# Altium integrated library Linear Technology PMIC-Switching Reg LT1074-LT8705.IntLib: 2252 symbols (part 11 of 124)
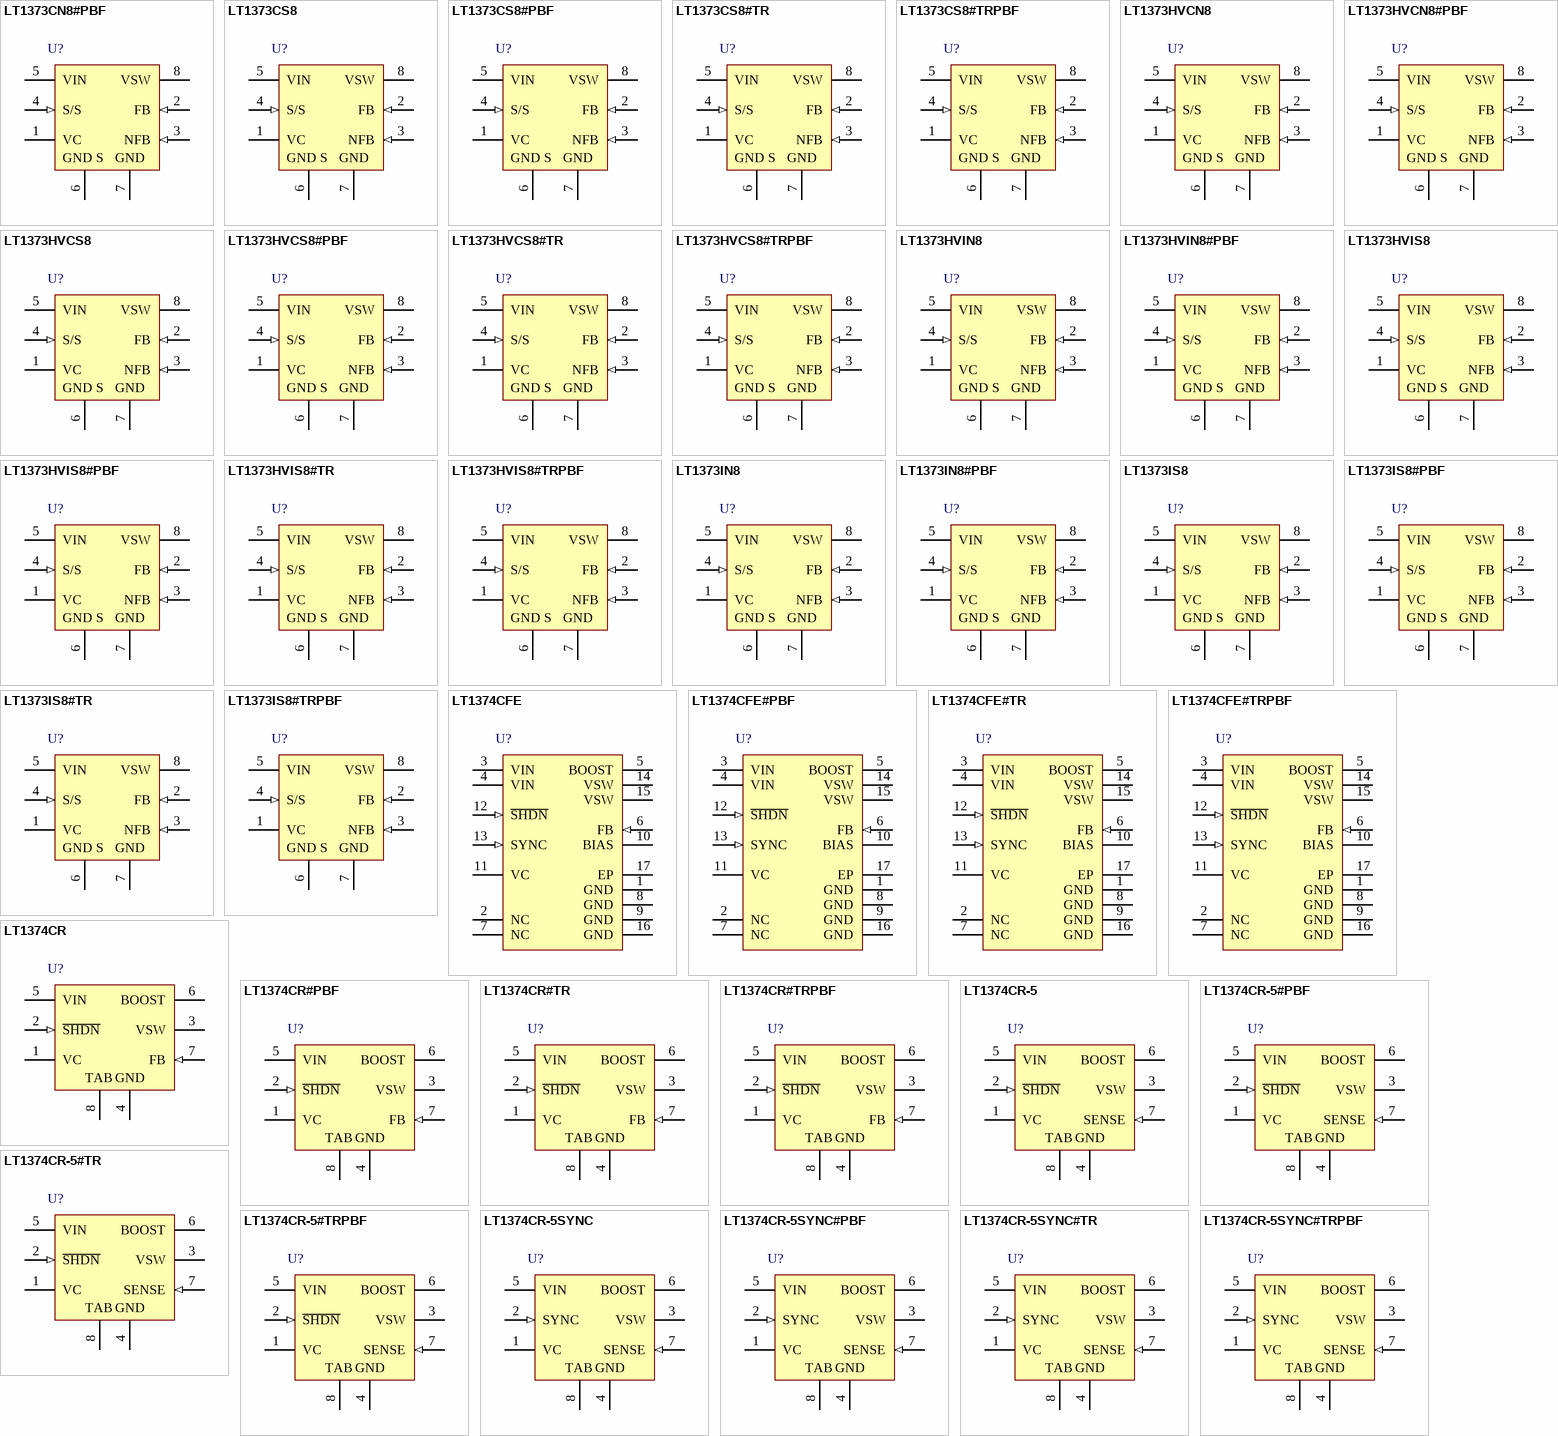
[diagram p81: symbols LT1373CN8#PBF to LT1374CR-5SYNC#TRPBF]

## LT1373CS8#TRPBF
designator U?
250 kHz Low Supply Current High Efficiency 1.5 A Switching Regulator, 8-pin SOIC (S8-8), 0 to 125 degC, Pb-Free, Tape and Reel; Manufacturer: Linear Technology; PartNumber: LT1373CS8#TRPBF; Number of Outputs: 1; PackageReference: S8-8; PackageDescription: 8-Pin Plastic Small Outline (Narrow .150 Inch), Body 4.9 x 3.9 mm, Pitch 1.27 mm; Supplier 1: Digi-Key; Supplier Part Number 1: LT1373CS8#TRPBF-ND; RoHS: TRUE
footprint LT-S8-8_N (SOIC, 8-Leads, Body 5x4mm, Pitch 1.27mm, IPC Medium Density)
footprint LT-S8-8_L (SOIC, 8-Leads, Body 5x4mm, Pitch 1.27mm, IPC High Density)
footprint LT-S8-8_M (SOIC, 8-Leads, Body 5x4mm, Pitch 1.27mm, IPC Low Density)
pins: 1 VC "The compensation pin is used for frequency compensation, current limiting and soft start. It is the output of the error amplifier and the input of the current comparator. Loop frequency compensation can be performed with an (See Datasheet)", 2 FB (in) "The feedback pin is used for positive output voltage sensing and oscillator frequency shifting. It is the inverting input to the error amplifier. The noninverting input of this amplifier is internally tied to a 1.245V (See Datasheet)", 3 NFB (in), 4 S/S (in) "Shutdown and Synchronization Pin. The S/S pin is logic level compatible. Shutdown is active low and the shutdown threshold is typically 1.3V. For normal operation, pull the S/S pin high, tie it to VIN or leave it floating. (See Datasheet)", 5 VIN (power) "Bypass input supply pin with 10uF or more. The part goes into undervoltage lockout when VIN drops below 2.5V. Undervoltage lockout stops switching and pulls the VC pin low.", 6 GND S (power) "The ground sense pin is a ¡°clean¡± ground. The internal reference, error amplifier and negative feedback amplifier are referred to the ground sense pin. Connect it to ground. Keep the ground path connection to the out(See Datasheet)", 7 GND (power) "The ground pin is the emitter connection of the power switch and has large currents flowing through it. It should be connected directly to a good quality ground plane.", 8 VSW (power) "The switch pin is the collector of the power switch and has large currents flowing through it. Keep the traces to the switching components as short as possible to minimize radiation and voltage spikes."

## LT1373HVCN8
designator U?
250 kHz Low Supply Current High Efficiency 1.5 A Switching Regulator, 8-pin DIP (N8-8), 0 to 125 degC; Manufacturer: Linear Technology; PartNumber: LT1373HVCN8; Number of Outputs: 1; PackageReference: N8-8; PackageDescription: 8-Pin PDIP, Body 10.16 x 6.48 mm, Pitch 2.54 mm; Supplier 1: Digi-Key; Supplier Part Number 1: LT1373HVCN8-ND; RoHS: FALSE
footprint LT-N8-8 (DIP, 8-Leads, Body 10.15x6.85mm, Pitch 2.54mm)
pins: 1 VC "The compensation pin is used for frequency compensation, current limiting and soft start. It is the output of the error amplifier and the input of the current comparator. Loop frequency compensation can be performed with an (See Datasheet)", 2 FB (in) "The feedback pin is used for positive output voltage sensing and oscillator frequency shifting. It is the inverting input to the error amplifier. The noninverting input of this amplifier is internally tied to a 1.245V (See Datasheet)", 3 NFB (in), 4 S/S (in) "Shutdown and Synchronization Pin. The S/S pin is logic level compatible. Shutdown is active low and the shutdown threshold is typically 1.3V. For normal operation, pull the S/S pin high, tie it to VIN or leave it floating. (See Datasheet)", 5 VIN (power) "Bypass input supply pin with 10uF or more. The part goes into undervoltage lockout when VIN drops below 2.5V. Undervoltage lockout stops switching and pulls the VC pin low.", 6 GND S (power) "The ground sense pin is a ¡°clean¡± ground. The internal reference, error amplifier and negative feedback amplifier are referred to the ground sense pin. Connect it to ground. Keep the ground path connection to the out(See Datasheet)", 7 GND (power) "The ground pin is the emitter connection of the power switch and has large currents flowing through it. It should be connected directly to a good quality ground plane.", 8 VSW (power) "The switch pin is the collector of the power switch and has large currents flowing through it. Keep the traces to the switching components as short as possible to minimize radiation and voltage spikes."

## LT1373HVCN8#PBF
designator U?
250 kHz Low Supply Current High Efficiency 1.5 A Switching Regulator, 8-pin DIP (N8-8), 0 to 125 degC, Pb-Free; Manufacturer: Linear Technology; PartNumber: LT1373HVCN8#PBF; Number of Outputs: 1; PackageReference: N8-8; PackageDescription: 8-Pin PDIP, Body 10.16 x 6.48 mm, Pitch 2.54 mm; Supplier 1: Digi-Key; Supplier Part Number 1: LT1373HVCN8#PBF-ND; RoHS: TRUE
footprint LT-N8-8 (DIP, 8-Leads, Body 10.15x6.85mm, Pitch 2.54mm)
pins: 1 VC "The compensation pin is used for frequency compensation, current limiting and soft start. It is the output of the error amplifier and the input of the current comparator. Loop frequency compensation can be performed with an (See Datasheet)", 2 FB (in) "The feedback pin is used for positive output voltage sensing and oscillator frequency shifting. It is the inverting input to the error amplifier. The noninverting input of this amplifier is internally tied to a 1.245V (See Datasheet)", 3 NFB (in), 4 S/S (in) "Shutdown and Synchronization Pin. The S/S pin is logic level compatible. Shutdown is active low and the shutdown threshold is typically 1.3V. For normal operation, pull the S/S pin high, tie it to VIN or leave it floating. (See Datasheet)", 5 VIN (power) "Bypass input supply pin with 10uF or more. The part goes into undervoltage lockout when VIN drops below 2.5V. Undervoltage lockout stops switching and pulls the VC pin low.", 6 GND S (power) "The ground sense pin is a ¡°clean¡± ground. The internal reference, error amplifier and negative feedback amplifier are referred to the ground sense pin. Connect it to ground. Keep the ground path connection to the out(See Datasheet)", 7 GND (power) "The ground pin is the emitter connection of the power switch and has large currents flowing through it. It should be connected directly to a good quality ground plane.", 8 VSW (power) "The switch pin is the collector of the power switch and has large currents flowing through it. Keep the traces to the switching components as short as possible to minimize radiation and voltage spikes."

## LT1373HVCS8
designator U?
250 kHz Low Supply Current High Efficiency 1.5 A Switching Regulator, 8-pin SOIC (S8-8), 0 to 125 degC; Manufacturer: Linear Technology; PartNumber: LT1373HVCS8; Number of Outputs: 1; PackageReference: S8-8; PackageDescription: 8-Pin Plastic Small Outline (Narrow .150 Inch), Body 4.9 x 3.9 mm, Pitch 1.27 mm; Supplier 1: Digi-Key; Supplier Part Number 1: LT1373HVCS8-ND; RoHS: FALSE
footprint LT-S8-8_N (SOIC, 8-Leads, Body 5x4mm, Pitch 1.27mm, IPC Medium Density)
footprint LT-S8-8_L (SOIC, 8-Leads, Body 5x4mm, Pitch 1.27mm, IPC High Density)
footprint LT-S8-8_M (SOIC, 8-Leads, Body 5x4mm, Pitch 1.27mm, IPC Low Density)
pins: 1 VC "The compensation pin is used for frequency compensation, current limiting and soft start. It is the output of the error amplifier and the input of the current comparator. Loop frequency compensation can be performed with an (See Datasheet)", 2 FB (in) "The feedback pin is used for positive output voltage sensing and oscillator frequency shifting. It is the inverting input to the error amplifier. The noninverting input of this amplifier is internally tied to a 1.245V (See Datasheet)", 3 NFB (in), 4 S/S (in) "Shutdown and Synchronization Pin. The S/S pin is logic level compatible. Shutdown is active low and the shutdown threshold is typically 1.3V. For normal operation, pull the S/S pin high, tie it to VIN or leave it floating. (See Datasheet)", 5 VIN (power) "Bypass input supply pin with 10uF or more. The part goes into undervoltage lockout when VIN drops below 2.5V. Undervoltage lockout stops switching and pulls the VC pin low.", 6 GND S (power) "The ground sense pin is a ¡°clean¡± ground. The internal reference, error amplifier and negative feedback amplifier are referred to the ground sense pin. Connect it to ground. Keep the ground path connection to the out(See Datasheet)", 7 GND (power) "The ground pin is the emitter connection of the power switch and has large currents flowing through it. It should be connected directly to a good quality ground plane.", 8 VSW (power) "The switch pin is the collector of the power switch and has large currents flowing through it. Keep the traces to the switching components as short as possible to minimize radiation and voltage spikes."

## LT1373HVCS8#PBF
designator U?
250 kHz Low Supply Current High Efficiency 1.5 A Switching Regulator, 8-pin SOIC (S8-8), 0 to 125 degC, Pb-Free; Manufacturer: Linear Technology; PartNumber: LT1373HVCS8#PBF; Number of Outputs: 1; PackageReference: S8-8; PackageDescription: 8-Pin Plastic Small Outline (Narrow .150 Inch), Body 4.9 x 3.9 mm, Pitch 1.27 mm; Supplier 1: Digi-Key; Supplier Part Number 1: LT1373HVCS8#PBF-ND; RoHS: TRUE
footprint LT-S8-8_N (SOIC, 8-Leads, Body 5x4mm, Pitch 1.27mm, IPC Medium Density)
footprint LT-S8-8_L (SOIC, 8-Leads, Body 5x4mm, Pitch 1.27mm, IPC High Density)
footprint LT-S8-8_M (SOIC, 8-Leads, Body 5x4mm, Pitch 1.27mm, IPC Low Density)
pins: 1 VC "The compensation pin is used for frequency compensation, current limiting and soft start. It is the output of the error amplifier and the input of the current comparator. Loop frequency compensation can be performed with an (See Datasheet)", 2 FB (in) "The feedback pin is used for positive output voltage sensing and oscillator frequency shifting. It is the inverting input to the error amplifier. The noninverting input of this amplifier is internally tied to a 1.245V (See Datasheet)", 3 NFB (in), 4 S/S (in) "Shutdown and Synchronization Pin. The S/S pin is logic level compatible. Shutdown is active low and the shutdown threshold is typically 1.3V. For normal operation, pull the S/S pin high, tie it to VIN or leave it floating. (See Datasheet)", 5 VIN (power) "Bypass input supply pin with 10uF or more. The part goes into undervoltage lockout when VIN drops below 2.5V. Undervoltage lockout stops switching and pulls the VC pin low.", 6 GND S (power) "The ground sense pin is a ¡°clean¡± ground. The internal reference, error amplifier and negative feedback amplifier are referred to the ground sense pin. Connect it to ground. Keep the ground path connection to the out(See Datasheet)", 7 GND (power) "The ground pin is the emitter connection of the power switch and has large currents flowing through it. It should be connected directly to a good quality ground plane.", 8 VSW (power) "The switch pin is the collector of the power switch and has large currents flowing through it. Keep the traces to the switching components as short as possible to minimize radiation and voltage spikes."

## LT1373HVCS8#TR
designator U?
250 kHz Low Supply Current High Efficiency 1.5 A Switching Regulator, 8-pin SOIC (S8-8), 0 to 125 degC, Tape and Reel; Manufacturer: Linear Technology; PartNumber: LT1373HVCS8#TR; Number of Outputs: 1; PackageReference: S8-8; PackageDescription: 8-Pin Plastic Small Outline (Narrow .150 Inch), Body 4.9 x 3.9 mm, Pitch 1.27 mm; Supplier 1: Digi-Key; Supplier Part Number 1: LT1373HVCS8#TR-ND; RoHS: FALSE
footprint LT-S8-8_N (SOIC, 8-Leads, Body 5x4mm, Pitch 1.27mm, IPC Medium Density)
footprint LT-S8-8_L (SOIC, 8-Leads, Body 5x4mm, Pitch 1.27mm, IPC High Density)
footprint LT-S8-8_M (SOIC, 8-Leads, Body 5x4mm, Pitch 1.27mm, IPC Low Density)
pins: 1 VC "The compensation pin is used for frequency compensation, current limiting and soft start. It is the output of the error amplifier and the input of the current comparator. Loop frequency compensation can be performed with an (See Datasheet)", 2 FB (in) "The feedback pin is used for positive output voltage sensing and oscillator frequency shifting. It is the inverting input to the error amplifier. The noninverting input of this amplifier is internally tied to a 1.245V (See Datasheet)", 3 NFB (in), 4 S/S (in) "Shutdown and Synchronization Pin. The S/S pin is logic level compatible. Shutdown is active low and the shutdown threshold is typically 1.3V. For normal operation, pull the S/S pin high, tie it to VIN or leave it floating. (See Datasheet)", 5 VIN (power) "Bypass input supply pin with 10uF or more. The part goes into undervoltage lockout when VIN drops below 2.5V. Undervoltage lockout stops switching and pulls the VC pin low.", 6 GND S (power) "The ground sense pin is a ¡°clean¡± ground. The internal reference, error amplifier and negative feedback amplifier are referred to the ground sense pin. Connect it to ground. Keep the ground path connection to the out(See Datasheet)", 7 GND (power) "The ground pin is the emitter connection of the power switch and has large currents flowing through it. It should be connected directly to a good quality ground plane.", 8 VSW (power) "The switch pin is the collector of the power switch and has large currents flowing through it. Keep the traces to the switching components as short as possible to minimize radiation and voltage spikes."

## LT1373HVCS8#TRPBF
designator U?
250 kHz Low Supply Current High Efficiency 1.5 A Switching Regulator, 8-pin SOIC (S8-8), 0 to 125 degC, Pb-Free, Tape and Reel; Manufacturer: Linear Technology; PartNumber: LT1373HVCS8#TRPBF; Number of Outputs: 1; PackageReference: S8-8; PackageDescription: 8-Pin Plastic Small Outline (Narrow .150 Inch), Body 4.9 x 3.9 mm, Pitch 1.27 mm; Supplier 1: Digi-Key; Supplier Part Number 1: LT1373HVCS8#TRPBF-ND; RoHS: TRUE
footprint LT-S8-8_N (SOIC, 8-Leads, Body 5x4mm, Pitch 1.27mm, IPC Medium Density)
footprint LT-S8-8_L (SOIC, 8-Leads, Body 5x4mm, Pitch 1.27mm, IPC High Density)
footprint LT-S8-8_M (SOIC, 8-Leads, Body 5x4mm, Pitch 1.27mm, IPC Low Density)
pins: 1 VC "The compensation pin is used for frequency compensation, current limiting and soft start. It is the output of the error amplifier and the input of the current comparator. Loop frequency compensation can be performed with an (See Datasheet)", 2 FB (in) "The feedback pin is used for positive output voltage sensing and oscillator frequency shifting. It is the inverting input to the error amplifier. The noninverting input of this amplifier is internally tied to a 1.245V (See Datasheet)", 3 NFB (in), 4 S/S (in) "Shutdown and Synchronization Pin. The S/S pin is logic level compatible. Shutdown is active low and the shutdown threshold is typically 1.3V. For normal operation, pull the S/S pin high, tie it to VIN or leave it floating. (See Datasheet)", 5 VIN (power) "Bypass input supply pin with 10uF or more. The part goes into undervoltage lockout when VIN drops below 2.5V. Undervoltage lockout stops switching and pulls the VC pin low.", 6 GND S (power) "The ground sense pin is a ¡°clean¡± ground. The internal reference, error amplifier and negative feedback amplifier are referred to the ground sense pin. Connect it to ground. Keep the ground path connection to the out(See Datasheet)", 7 GND (power) "The ground pin is the emitter connection of the power switch and has large currents flowing through it. It should be connected directly to a good quality ground plane.", 8 VSW (power) "The switch pin is the collector of the power switch and has large currents flowing through it. Keep the traces to the switching components as short as possible to minimize radiation and voltage spikes."

## LT1373HVIN8
designator U?
250 kHz Low Supply Current High Efficiency 1.5 A Switching Regulator, 8-pin DIP (N8-8), -40 to 125 degC; Manufacturer: Linear Technology; PartNumber: LT1373HVIN8; Number of Outputs: 1; PackageReference: N8-8; PackageDescription: 8-Pin PDIP, Body 10.16 x 6.48 mm, Pitch 2.54 mm; Supplier 1: Digi-Key; Supplier Part Number 1: LT1373HVIN8-ND; RoHS: FALSE
footprint LT-N8-8 (DIP, 8-Leads, Body 10.15x6.85mm, Pitch 2.54mm)
pins: 1 VC "The compensation pin is used for frequency compensation, current limiting and soft start. It is the output of the error amplifier and the input of the current comparator. Loop frequency compensation can be performed with an (See Datasheet)", 2 FB (in) "The feedback pin is used for positive output voltage sensing and oscillator frequency shifting. It is the inverting input to the error amplifier. The noninverting input of this amplifier is internally tied to a 1.245V (See Datasheet)", 3 NFB (in), 4 S/S (in) "Shutdown and Synchronization Pin. The S/S pin is logic level compatible. Shutdown is active low and the shutdown threshold is typically 1.3V. For normal operation, pull the S/S pin high, tie it to VIN or leave it floating. (See Datasheet)", 5 VIN (power) "Bypass input supply pin with 10uF or more. The part goes into undervoltage lockout when VIN drops below 2.5V. Undervoltage lockout stops switching and pulls the VC pin low.", 6 GND S (power) "The ground sense pin is a ¡°clean¡± ground. The internal reference, error amplifier and negative feedback amplifier are referred to the ground sense pin. Connect it to ground. Keep the ground path connection to the out(See Datasheet)", 7 GND (power) "The ground pin is the emitter connection of the power switch and has large currents flowing through it. It should be connected directly to a good quality ground plane.", 8 VSW (power) "The switch pin is the collector of the power switch and has large currents flowing through it. Keep the traces to the switching components as short as possible to minimize radiation and voltage spikes."

## LT1373HVIN8#PBF
designator U?
250 kHz Low Supply Current High Efficiency 1.5 A Switching Regulator, 8-pin DIP (N8-8), -40 to 125 degC, Pb-Free; Manufacturer: Linear Technology; PartNumber: LT1373HVIN8#PBF; Number of Outputs: 1; PackageReference: N8-8; PackageDescription: 8-Pin PDIP, Body 10.16 x 6.48 mm, Pitch 2.54 mm; Supplier 1: Digi-Key; Supplier Part Number 1: LT1373HVIN8#PBF-ND; RoHS: TRUE
footprint LT-N8-8 (DIP, 8-Leads, Body 10.15x6.85mm, Pitch 2.54mm)
pins: 1 VC "The compensation pin is used for frequency compensation, current limiting and soft start. It is the output of the error amplifier and the input of the current comparator. Loop frequency compensation can be performed with an (See Datasheet)", 2 FB (in) "The feedback pin is used for positive output voltage sensing and oscillator frequency shifting. It is the inverting input to the error amplifier. The noninverting input of this amplifier is internally tied to a 1.245V (See Datasheet)", 3 NFB (in), 4 S/S (in) "Shutdown and Synchronization Pin. The S/S pin is logic level compatible. Shutdown is active low and the shutdown threshold is typically 1.3V. For normal operation, pull the S/S pin high, tie it to VIN or leave it floating. (See Datasheet)", 5 VIN (power) "Bypass input supply pin with 10uF or more. The part goes into undervoltage lockout when VIN drops below 2.5V. Undervoltage lockout stops switching and pulls the VC pin low.", 6 GND S (power) "The ground sense pin is a ¡°clean¡± ground. The internal reference, error amplifier and negative feedback amplifier are referred to the ground sense pin. Connect it to ground. Keep the ground path connection to the out(See Datasheet)", 7 GND (power) "The ground pin is the emitter connection of the power switch and has large currents flowing through it. It should be connected directly to a good quality ground plane.", 8 VSW (power) "The switch pin is the collector of the power switch and has large currents flowing through it. Keep the traces to the switching components as short as possible to minimize radiation and voltage spikes."

## LT1373HVIS8
designator U?
250 kHz Low Supply Current High Efficiency 1.5 A Switching Regulator, 8-pin SOIC (S8-8), -40 to 125 degC; Manufacturer: Linear Technology; PartNumber: LT1373HVIS8; Number of Outputs: 1; PackageReference: S8-8; PackageDescription: 8-Pin Plastic Small Outline (Narrow .150 Inch), Body 4.9 x 3.9 mm, Pitch 1.27 mm; Supplier 1: Digi-Key; Supplier Part Number 1: LT1373HVIS8-ND; RoHS: FALSE
footprint LT-S8-8_N (SOIC, 8-Leads, Body 5x4mm, Pitch 1.27mm, IPC Medium Density)
footprint LT-S8-8_L (SOIC, 8-Leads, Body 5x4mm, Pitch 1.27mm, IPC High Density)
footprint LT-S8-8_M (SOIC, 8-Leads, Body 5x4mm, Pitch 1.27mm, IPC Low Density)
pins: 1 VC "The compensation pin is used for frequency compensation, current limiting and soft start. It is the output of the error amplifier and the input of the current comparator. Loop frequency compensation can be performed with an (See Datasheet)", 2 FB (in) "The feedback pin is used for positive output voltage sensing and oscillator frequency shifting. It is the inverting input to the error amplifier. The noninverting input of this amplifier is internally tied to a 1.245V (See Datasheet)", 3 NFB (in), 4 S/S (in) "Shutdown and Synchronization Pin. The S/S pin is logic level compatible. Shutdown is active low and the shutdown threshold is typically 1.3V. For normal operation, pull the S/S pin high, tie it to VIN or leave it floating. (See Datasheet)", 5 VIN (power) "Bypass input supply pin with 10uF or more. The part goes into undervoltage lockout when VIN drops below 2.5V. Undervoltage lockout stops switching and pulls the VC pin low.", 6 GND S (power) "The ground sense pin is a ¡°clean¡± ground. The internal reference, error amplifier and negative feedback amplifier are referred to the ground sense pin. Connect it to ground. Keep the ground path connection to the out(See Datasheet)", 7 GND (power) "The ground pin is the emitter connection of the power switch and has large currents flowing through it. It should be connected directly to a good quality ground plane.", 8 VSW (power) "The switch pin is the collector of the power switch and has large currents flowing through it. Keep the traces to the switching components as short as possible to minimize radiation and voltage spikes."

## LT1373HVIS8#PBF
designator U?
250 kHz Low Supply Current High Efficiency 1.5 A Switching Regulator, 8-pin SOIC (S8-8), -40 to 125 degC, Pb-Free; Manufacturer: Linear Technology; PartNumber: LT1373HVIS8#PBF; Number of Outputs: 1; PackageReference: S8-8; PackageDescription: 8-Pin Plastic Small Outline (Narrow .150 Inch), Body 4.9 x 3.9 mm, Pitch 1.27 mm; Supplier 1: Digi-Key; Supplier Part Number 1: LT1373HVIS8#PBF-ND; RoHS: TRUE
footprint LT-S8-8_N (SOIC, 8-Leads, Body 5x4mm, Pitch 1.27mm, IPC Medium Density)
footprint LT-S8-8_L (SOIC, 8-Leads, Body 5x4mm, Pitch 1.27mm, IPC High Density)
footprint LT-S8-8_M (SOIC, 8-Leads, Body 5x4mm, Pitch 1.27mm, IPC Low Density)
pins: 1 VC "The compensation pin is used for frequency compensation, current limiting and soft start. It is the output of the error amplifier and the input of the current comparator. Loop frequency compensation can be performed with an (See Datasheet)", 2 FB (in) "The feedback pin is used for positive output voltage sensing and oscillator frequency shifting. It is the inverting input to the error amplifier. The noninverting input of this amplifier is internally tied to a 1.245V (See Datasheet)", 3 NFB (in), 4 S/S (in) "Shutdown and Synchronization Pin. The S/S pin is logic level compatible. Shutdown is active low and the shutdown threshold is typically 1.3V. For normal operation, pull the S/S pin high, tie it to VIN or leave it floating. (See Datasheet)", 5 VIN (power) "Bypass input supply pin with 10uF or more. The part goes into undervoltage lockout when VIN drops below 2.5V. Undervoltage lockout stops switching and pulls the VC pin low.", 6 GND S (power) "The ground sense pin is a ¡°clean¡± ground. The internal reference, error amplifier and negative feedback amplifier are referred to the ground sense pin. Connect it to ground. Keep the ground path connection to the out(See Datasheet)", 7 GND (power) "The ground pin is the emitter connection of the power switch and has large currents flowing through it. It should be connected directly to a good quality ground plane.", 8 VSW (power) "The switch pin is the collector of the power switch and has large currents flowing through it. Keep the traces to the switching components as short as possible to minimize radiation and voltage spikes."

## LT1373HVIS8#TR
designator U?
250 kHz Low Supply Current High Efficiency 1.5 A Switching Regulator, 8-pin SOIC (S8-8), -40 to 125 degC, Tape and Reel; Manufacturer: Linear Technology; PartNumber: LT1373HVIS8#TR; Number of Outputs: 1; PackageReference: S8-8; PackageDescription: 8-Pin Plastic Small Outline (Narrow .150 Inch), Body 4.9 x 3.9 mm, Pitch 1.27 mm; Supplier 1: Digi-Key; Supplier Part Number 1: LT1373HVIS8#TR-ND; RoHS: FALSE
footprint LT-S8-8_N (SOIC, 8-Leads, Body 5x4mm, Pitch 1.27mm, IPC Medium Density)
footprint LT-S8-8_L (SOIC, 8-Leads, Body 5x4mm, Pitch 1.27mm, IPC High Density)
footprint LT-S8-8_M (SOIC, 8-Leads, Body 5x4mm, Pitch 1.27mm, IPC Low Density)
pins: 1 VC "The compensation pin is used for frequency compensation, current limiting and soft start. It is the output of the error amplifier and the input of the current comparator. Loop frequency compensation can be performed with an (See Datasheet)", 2 FB (in) "The feedback pin is used for positive output voltage sensing and oscillator frequency shifting. It is the inverting input to the error amplifier. The noninverting input of this amplifier is internally tied to a 1.245V (See Datasheet)", 3 NFB (in), 4 S/S (in) "Shutdown and Synchronization Pin. The S/S pin is logic level compatible. Shutdown is active low and the shutdown threshold is typically 1.3V. For normal operation, pull the S/S pin high, tie it to VIN or leave it floating. (See Datasheet)", 5 VIN (power) "Bypass input supply pin with 10uF or more. The part goes into undervoltage lockout when VIN drops below 2.5V. Undervoltage lockout stops switching and pulls the VC pin low.", 6 GND S (power) "The ground sense pin is a ¡°clean¡± ground. The internal reference, error amplifier and negative feedback amplifier are referred to the ground sense pin. Connect it to ground. Keep the ground path connection to the out(See Datasheet)", 7 GND (power) "The ground pin is the emitter connection of the power switch and has large currents flowing through it. It should be connected directly to a good quality ground plane.", 8 VSW (power) "The switch pin is the collector of the power switch and has large currents flowing through it. Keep the traces to the switching components as short as possible to minimize radiation and voltage spikes."

## LT1373HVIS8#TRPBF
designator U?
250 kHz Low Supply Current High Efficiency 1.5 A Switching Regulator, 8-pin SOIC (S8-8), -40 to 125 degC, Pb-Free, Tape and Reel; Manufacturer: Linear Technology; PartNumber: LT1373HVIS8#TRPBF; Number of Outputs: 1; PackageReference: S8-8; PackageDescription: 8-Pin Plastic Small Outline (Narrow .150 Inch), Body 4.9 x 3.9 mm, Pitch 1.27 mm; Supplier 1: Digi-Key; Supplier Part Number 1: LT1373HVIS8#TRPBF-ND; RoHS: TRUE
footprint LT-S8-8_N (SOIC, 8-Leads, Body 5x4mm, Pitch 1.27mm, IPC Medium Density)
footprint LT-S8-8_L (SOIC, 8-Leads, Body 5x4mm, Pitch 1.27mm, IPC High Density)
footprint LT-S8-8_M (SOIC, 8-Leads, Body 5x4mm, Pitch 1.27mm, IPC Low Density)
pins: 1 VC "The compensation pin is used for frequency compensation, current limiting and soft start. It is the output of the error amplifier and the input of the current comparator. Loop frequency compensation can be performed with an (See Datasheet)", 2 FB (in) "The feedback pin is used for positive output voltage sensing and oscillator frequency shifting. It is the inverting input to the error amplifier. The noninverting input of this amplifier is internally tied to a 1.245V (See Datasheet)", 3 NFB (in), 4 S/S (in) "Shutdown and Synchronization Pin. The S/S pin is logic level compatible. Shutdown is active low and the shutdown threshold is typically 1.3V. For normal operation, pull the S/S pin high, tie it to VIN or leave it floating. (See Datasheet)", 5 VIN (power) "Bypass input supply pin with 10uF or more. The part goes into undervoltage lockout when VIN drops below 2.5V. Undervoltage lockout stops switching and pulls the VC pin low.", 6 GND S (power) "The ground sense pin is a ¡°clean¡± ground. The internal reference, error amplifier and negative feedback amplifier are referred to the ground sense pin. Connect it to ground. Keep the ground path connection to the out(See Datasheet)", 7 GND (power) "The ground pin is the emitter connection of the power switch and has large currents flowing through it. It should be connected directly to a good quality ground plane.", 8 VSW (power) "The switch pin is the collector of the power switch and has large currents flowing through it. Keep the traces to the switching components as short as possible to minimize radiation and voltage spikes."

## LT1373IN8
designator U?
250 kHz Low Supply Current High Efficiency 1.5 A Switching Regulator, 8-pin DIP (N8-8), -40 to 125 degC; Manufacturer: Linear Technology; PartNumber: LT1373IN8; Number of Outputs: 1; PackageReference: N8-8; PackageDescription: 8-Pin PDIP, Body 10.16 x 6.48 mm, Pitch 2.54 mm; Supplier 1: Digi-Key; Supplier Part Number 1: LT1373IN8-ND; RoHS: FALSE
footprint LT-N8-8 (DIP, 8-Leads, Body 10.15x6.85mm, Pitch 2.54mm)
pins: 1 VC "The compensation pin is used for frequency compensation, current limiting and soft start. It is the output of the error amplifier and the input of the current comparator. Loop frequency compensation can be performed with an (See Datasheet)", 2 FB (in) "The feedback pin is used for positive output voltage sensing and oscillator frequency shifting. It is the inverting input to the error amplifier. The noninverting input of this amplifier is internally tied to a 1.245V (See Datasheet)", 3 NFB (in), 4 S/S (in) "Shutdown and Synchronization Pin. The S/S pin is logic level compatible. Shutdown is active low and the shutdown threshold is typically 1.3V. For normal operation, pull the S/S pin high, tie it to VIN or leave it floating. (See Datasheet)", 5 VIN (power) "Bypass input supply pin with 10uF or more. The part goes into undervoltage lockout when VIN drops below 2.5V. Undervoltage lockout stops switching and pulls the VC pin low.", 6 GND S (power) "The ground sense pin is a ¡°clean¡± ground. The internal reference, error amplifier and negative feedback amplifier are referred to the ground sense pin. Connect it to ground. Keep the ground path connection to the out(See Datasheet)", 7 GND (power) "The ground pin is the emitter connection of the power switch and has large currents flowing through it. It should be connected directly to a good quality ground plane.", 8 VSW (power) "The switch pin is the collector of the power switch and has large currents flowing through it. Keep the traces to the switching components as short as possible to minimize radiation and voltage spikes."

## LT1373IN8#PBF
designator U?
250 kHz Low Supply Current High Efficiency 1.5 A Switching Regulator, 8-pin DIP (N8-8), -40 to 125 degC, Pb-Free; Manufacturer: Linear Technology; PartNumber: LT1373IN8#PBF; Number of Outputs: 1; PackageReference: N8-8; PackageDescription: 8-Pin PDIP, Body 10.16 x 6.48 mm, Pitch 2.54 mm; Supplier 1: Digi-Key; Supplier Part Number 1: LT1373IN8#PBF-ND; RoHS: TRUE
footprint LT-N8-8 (DIP, 8-Leads, Body 10.15x6.85mm, Pitch 2.54mm)
pins: 1 VC "The compensation pin is used for frequency compensation, current limiting and soft start. It is the output of the error amplifier and the input of the current comparator. Loop frequency compensation can be performed with an (See Datasheet)", 2 FB (in) "The feedback pin is used for positive output voltage sensing and oscillator frequency shifting. It is the inverting input to the error amplifier. The noninverting input of this amplifier is internally tied to a 1.245V (See Datasheet)", 3 NFB (in), 4 S/S (in) "Shutdown and Synchronization Pin. The S/S pin is logic level compatible. Shutdown is active low and the shutdown threshold is typically 1.3V. For normal operation, pull the S/S pin high, tie it to VIN or leave it floating. (See Datasheet)", 5 VIN (power) "Bypass input supply pin with 10uF or more. The part goes into undervoltage lockout when VIN drops below 2.5V. Undervoltage lockout stops switching and pulls the VC pin low.", 6 GND S (power) "The ground sense pin is a ¡°clean¡± ground. The internal reference, error amplifier and negative feedback amplifier are referred to the ground sense pin. Connect it to ground. Keep the ground path connection to the out(See Datasheet)", 7 GND (power) "The ground pin is the emitter connection of the power switch and has large currents flowing through it. It should be connected directly to a good quality ground plane.", 8 VSW (power) "The switch pin is the collector of the power switch and has large currents flowing through it. Keep the traces to the switching components as short as possible to minimize radiation and voltage spikes."

## LT1373IS8
designator U?
250 kHz Low Supply Current High Efficiency 1.5 A Switching Regulator, 8-pin SOIC (S8-8), -40 to 125 degC; Manufacturer: Linear Technology; PartNumber: LT1373IS8; Number of Outputs: 1; PackageReference: S8-8; PackageDescription: 8-Pin Plastic Small Outline (Narrow .150 Inch), Body 4.9 x 3.9 mm, Pitch 1.27 mm; Supplier 1: Digi-Key; Supplier Part Number 1: LT1373IS8-ND; RoHS: FALSE
footprint LT-S8-8_N (SOIC, 8-Leads, Body 5x4mm, Pitch 1.27mm, IPC Medium Density)
footprint LT-S8-8_L (SOIC, 8-Leads, Body 5x4mm, Pitch 1.27mm, IPC High Density)
footprint LT-S8-8_M (SOIC, 8-Leads, Body 5x4mm, Pitch 1.27mm, IPC Low Density)
pins: 1 VC "The compensation pin is used for frequency compensation, current limiting and soft start. It is the output of the error amplifier and the input of the current comparator. Loop frequency compensation can be performed with an (See Datasheet)", 2 FB (in) "The feedback pin is used for positive output voltage sensing and oscillator frequency shifting. It is the inverting input to the error amplifier. The noninverting input of this amplifier is internally tied to a 1.245V (See Datasheet)", 3 NFB (in), 4 S/S (in) "Shutdown and Synchronization Pin. The S/S pin is logic level compatible. Shutdown is active low and the shutdown threshold is typically 1.3V. For normal operation, pull the S/S pin high, tie it to VIN or leave it floating. (See Datasheet)", 5 VIN (power) "Bypass input supply pin with 10uF or more. The part goes into undervoltage lockout when VIN drops below 2.5V. Undervoltage lockout stops switching and pulls the VC pin low.", 6 GND S (power) "The ground sense pin is a ¡°clean¡± ground. The internal reference, error amplifier and negative feedback amplifier are referred to the ground sense pin. Connect it to ground. Keep the ground path connection to the out(See Datasheet)", 7 GND (power) "The ground pin is the emitter connection of the power switch and has large currents flowing through it. It should be connected directly to a good quality ground plane.", 8 VSW (power) "The switch pin is the collector of the power switch and has large currents flowing through it. Keep the traces to the switching components as short as possible to minimize radiation and voltage spikes."

## LT1373IS8#PBF
designator U?
250 kHz Low Supply Current High Efficiency 1.5 A Switching Regulator, 8-pin SOIC (S8-8), -40 to 125 degC, Pb-Free; Manufacturer: Linear Technology; PartNumber: LT1373IS8#PBF; Number of Outputs: 1; PackageReference: S8-8; PackageDescription: 8-Pin Plastic Small Outline (Narrow .150 Inch), Body 4.9 x 3.9 mm, Pitch 1.27 mm; Supplier 1: Digi-Key; Supplier Part Number 1: LT1373IS8#PBF-ND; RoHS: TRUE
footprint LT-S8-8_N (SOIC, 8-Leads, Body 5x4mm, Pitch 1.27mm, IPC Medium Density)
footprint LT-S8-8_L (SOIC, 8-Leads, Body 5x4mm, Pitch 1.27mm, IPC High Density)
footprint LT-S8-8_M (SOIC, 8-Leads, Body 5x4mm, Pitch 1.27mm, IPC Low Density)
pins: 1 VC "The compensation pin is used for frequency compensation, current limiting and soft start. It is the output of the error amplifier and the input of the current comparator. Loop frequency compensation can be performed with an (See Datasheet)", 2 FB (in) "The feedback pin is used for positive output voltage sensing and oscillator frequency shifting. It is the inverting input to the error amplifier. The noninverting input of this amplifier is internally tied to a 1.245V (See Datasheet)", 3 NFB (in), 4 S/S (in) "Shutdown and Synchronization Pin. The S/S pin is logic level compatible. Shutdown is active low and the shutdown threshold is typically 1.3V. For normal operation, pull the S/S pin high, tie it to VIN or leave it floating. (See Datasheet)", 5 VIN (power) "Bypass input supply pin with 10uF or more. The part goes into undervoltage lockout when VIN drops below 2.5V. Undervoltage lockout stops switching and pulls the VC pin low.", 6 GND S (power) "The ground sense pin is a ¡°clean¡± ground. The internal reference, error amplifier and negative feedback amplifier are referred to the ground sense pin. Connect it to ground. Keep the ground path connection to the out(See Datasheet)", 7 GND (power) "The ground pin is the emitter connection of the power switch and has large currents flowing through it. It should be connected directly to a good quality ground plane.", 8 VSW (power) "The switch pin is the collector of the power switch and has large currents flowing through it. Keep the traces to the switching components as short as possible to minimize radiation and voltage spikes."

## LT1373IS8#TR
designator U?
250 kHz Low Supply Current High Efficiency 1.5 A Switching Regulator, 8-pin SOIC (S8-8), -40 to 125 degC, Tape and Reel; Manufacturer: Linear Technology; PartNumber: LT1373IS8#TR; Number of Outputs: 1; PackageReference: S8-8; PackageDescription: 8-Pin Plastic Small Outline (Narrow .150 Inch), Body 4.9 x 3.9 mm, Pitch 1.27 mm; Supplier 1: Digi-Key; Supplier Part Number 1: LT1373IS8#TR-ND; RoHS: FALSE
footprint LT-S8-8_N (SOIC, 8-Leads, Body 5x4mm, Pitch 1.27mm, IPC Medium Density)
footprint LT-S8-8_L (SOIC, 8-Leads, Body 5x4mm, Pitch 1.27mm, IPC High Density)
footprint LT-S8-8_M (SOIC, 8-Leads, Body 5x4mm, Pitch 1.27mm, IPC Low Density)
pins: 1 VC "The compensation pin is used for frequency compensation, current limiting and soft start. It is the output of the error amplifier and the input of the current comparator. Loop frequency compensation can be performed with an (See Datasheet)", 2 FB (in) "The feedback pin is used for positive output voltage sensing and oscillator frequency shifting. It is the inverting input to the error amplifier. The noninverting input of this amplifier is internally tied to a 1.245V (See Datasheet)", 3 NFB (in), 4 S/S (in) "Shutdown and Synchronization Pin. The S/S pin is logic level compatible. Shutdown is active low and the shutdown threshold is typically 1.3V. For normal operation, pull the S/S pin high, tie it to VIN or leave it floating. (See Datasheet)", 5 VIN (power) "Bypass input supply pin with 10uF or more. The part goes into undervoltage lockout when VIN drops below 2.5V. Undervoltage lockout stops switching and pulls the VC pin low.", 6 GND S (power) "The ground sense pin is a ¡°clean¡± ground. The internal reference, error amplifier and negative feedback amplifier are referred to the ground sense pin. Connect it to ground. Keep the ground path connection to the out(See Datasheet)", 7 GND (power) "The ground pin is the emitter connection of the power switch and has large currents flowing through it. It should be connected directly to a good quality ground plane.", 8 VSW (power) "The switch pin is the collector of the power switch and has large currents flowing through it. Keep the traces to the switching components as short as possible to minimize radiation and voltage spikes."

## LT1373IS8#TRPBF
designator U?
250 kHz Low Supply Current High Efficiency 1.5 A Switching Regulator, 8-pin SOIC (S8-8), -40 to 125 degC, Pb-Free, Tape and Reel; Manufacturer: Linear Technology; PartNumber: LT1373IS8#TRPBF; Number of Outputs: 1; PackageReference: S8-8; PackageDescription: 8-Pin Plastic Small Outline (Narrow .150 Inch), Body 4.9 x 3.9 mm, Pitch 1.27 mm; Supplier 1: Digi-Key; Supplier Part Number 1: LT1373IS8#TRPBF-ND; RoHS: TRUE
footprint LT-S8-8_N (SOIC, 8-Leads, Body 5x4mm, Pitch 1.27mm, IPC Medium Density)
footprint LT-S8-8_L (SOIC, 8-Leads, Body 5x4mm, Pitch 1.27mm, IPC High Density)
footprint LT-S8-8_M (SOIC, 8-Leads, Body 5x4mm, Pitch 1.27mm, IPC Low Density)
pins: 1 VC "The compensation pin is used for frequency compensation, current limiting and soft start. It is the output of the error amplifier and the input of the current comparator. Loop frequency compensation can be performed with an (See Datasheet)", 2 FB (in) "The feedback pin is used for positive output voltage sensing and oscillator frequency shifting. It is the inverting input to the error amplifier. The noninverting input of this amplifier is internally tied to a 1.245V (See Datasheet)", 3 NFB (in), 4 S/S (in) "Shutdown and Synchronization Pin. The S/S pin is logic level compatible. Shutdown is active low and the shutdown threshold is typically 1.3V. For normal operation, pull the S/S pin high, tie it to VIN or leave it floating. (See Datasheet)", 5 VIN (power) "Bypass input supply pin with 10uF or more. The part goes into undervoltage lockout when VIN drops below 2.5V. Undervoltage lockout stops switching and pulls the VC pin low.", 6 GND S (power) "The ground sense pin is a ¡°clean¡± ground. The internal reference, error amplifier and negative feedback amplifier are referred to the ground sense pin. Connect it to ground. Keep the ground path connection to the out(See Datasheet)", 7 GND (power) "The ground pin is the emitter connection of the power switch and has large currents flowing through it. It should be connected directly to a good quality ground plane.", 8 VSW (power) "The switch pin is the collector of the power switch and has large currents flowing through it. Keep the traces to the switching components as short as possible to minimize radiation and voltage spikes."

## LT1374CFE
designator U?
4.5 A, 500 kHz Step-Down Switching Regulator, 16-pin SOP (FE-16-EPV-BB), 0 to 125 degC; Manufacturer: Linear Technology; PartNumber: LT1374CFE; Number of Outputs: 1; PackageReference: FE-16; PackageDescription: 16-Pin Plastic TSSOP, Body 5 x 4.4 mm, Pitch 0.65 mm; Supplier 1: Digi-Key; Supplier Part Number 1: LT1374CFE-ND; RoHS: FALSE
footprint LT-FE-16-EPV-BB_N (SOP, 16-Leads, Body 5.1x4.5mm, Pitch 0.65mm, Thermal Pad 3.58x2.94mm, IPC Medium Density)
footprint LT-FE-16-EPV-BB_L (SOP, 16-Leads, Body 5.1x4.5mm, Pitch 0.65mm, Thermal Pad 3.58x2.94mm, IPC High Density)
footprint LT-FE-16-EPV-BB_M (SOP, 16-Leads, Body 5.1x4.5mm, Pitch 0.65mm, Thermal Pad 3.58x2.94mm, IPC Low Density)
pins: 1 GND (power) "The GND pin connection needs consideration for two reasons. First, it acts as the reference for the regulated output, so load regulation will suffer if the “ground?end of the load is not at the same voltage as the (See Datasheet)", 2 NC "No Connect. Leave floating or solder to any node.", 3 VIN (power) "This is the collector of the on-chip power NPN switch. This pin powers the internal circuitry and internal regulator when the BIAS pin is not present. At NPN switch on and off, high dI/dt edges occur on this pin. Keep the (See Datasheet)", 4 VIN (power) "This is the collector of the on-chip power NPN switch. This pin powers the internal circuitry and internal regulator when the BIAS pin is not present. At NPN switch on and off, high dI/dt edges occur on this pin. Keep the (See Datasheet)", 5 BOOST "The BOOST pin is used to provide a drive voltage, higher than the input voltage, to the internal bipolar NPN power switch. Without this added voltage, the typical switch voltage loss would be about 1.5V. The additional boost (See Datasheet)", 6 FB (in) "The feedback pin is the input to the error amplifier which is referenced to an internal 2.42V source. An external resistive divider is used to set the output voltage.", 7 NC "No Connect. Leave floating or solder to any node.", 8 GND (power) "The GND pin connection needs consideration for two reasons. First, it acts as the reference for the regulated output, so load regulation will suffer if the “ground?end of the load is not at the same voltage as the (See Datasheet)", 9 GND (power) "The GND pin connection needs consideration for two reasons. First, it acts as the reference for the regulated output, so load regulation will suffer if the “ground?end of the load is not at the same voltage as the (See Datasheet)", 10 BIAS (power) "The BIAS pin is used to improve efficiency when operating at higher input voltages and light load current. Connecting this pin to the regulated output voltage forces most of the internal circuitry to draw its operating (See Datasheet)", 11 VC "The VC pin is the output of the error amplifier and the input of the peak switch current comparator. It is normally used for frequency compensation, but can do double duty as a current clamp or control loop override. This (See Datasheet)", 12 ~{SHDN} (in) "The shutdown pin is used to turn off the regulator and to reduce input drain current to a few microamperes. Actually, this pin has two separate thresholds, one at 2.38V to disable switching, and a second at 0.4V to force (See Datasheet)", 13 SYNC (in) "The sync pin is used to synchronize the internal oscillator to an external signal. It is directly logic compatible and can be driven with any signal between 10% and 90% duty cycle. The synchronizing range is equal to initial (See Datasheet)", 14 VSW (power) "The switch pin is the emitter of the on-chip power NPN switch. This pin is driven up to the input pin voltage during switch on time. Inductor current drives the switch pin negative during switch off time. Negative voltage is (See Datasheet)", 15 VSW (power) "The switch pin is the emitter of the on-chip power NPN switch. This pin is driven up to the input pin voltage during switch on time. Inductor current drives the switch pin negative during switch off time. Negative voltage is (See Datasheet)", 16 GND (power) "The GND pin connection needs consideration for two reasons. First, it acts as the reference for the regulated output, so load regulation will suffer if the “ground?end of the load is not at the same voltage as the (See Datasheet)", 17 EP (power)